# EAGLE library part 22-23-2061 (library EW_Connectors)
.100" (2.54mm) Center Header - 6 Pin
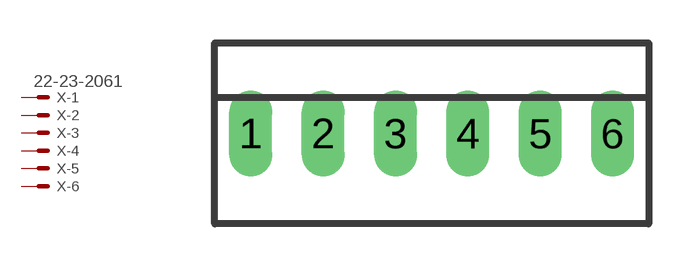
[diagram p71: symbol with the pads of 22-23-2061; footprint 22-23-2061]

Designator prefix X; gates -1=MV-2 -2=M-7 -3=M-7 -4=M-7 -5=M-7 -6=M-7

## 22-23-2061 (MF: MOLEX; MPN: 22-23-2061; OC_FARNELL: 1462922; OC_NEWARK: 27C1933)  [22-23-2061]
1  -1:S  pas
2  -2:S  pas
3  -3:S  pas
4  -4:S  pas
5  -5:S  pas
6  -6:S  pas

## Footprint 22-23-2061 (pad centres in mm)
KK® 254 Solid Header, Vertical, with Friction Lock, 6 Circuits, Tin (Sn) Plating Datasheet <http://www.molex.com/pdm_docs/sd/022232061_sd.pdf>
drill 1 long: 1 -6.35,0; 2 -3.81,0; 3 -1.27,0; 4 1.27,0; 5 3.81,0; 6 6.35,0